# Altium schematic symbol library УГО.SchLib: 53 symbols
Pins are listed as number, name and electrical type; pins without a type are passive.

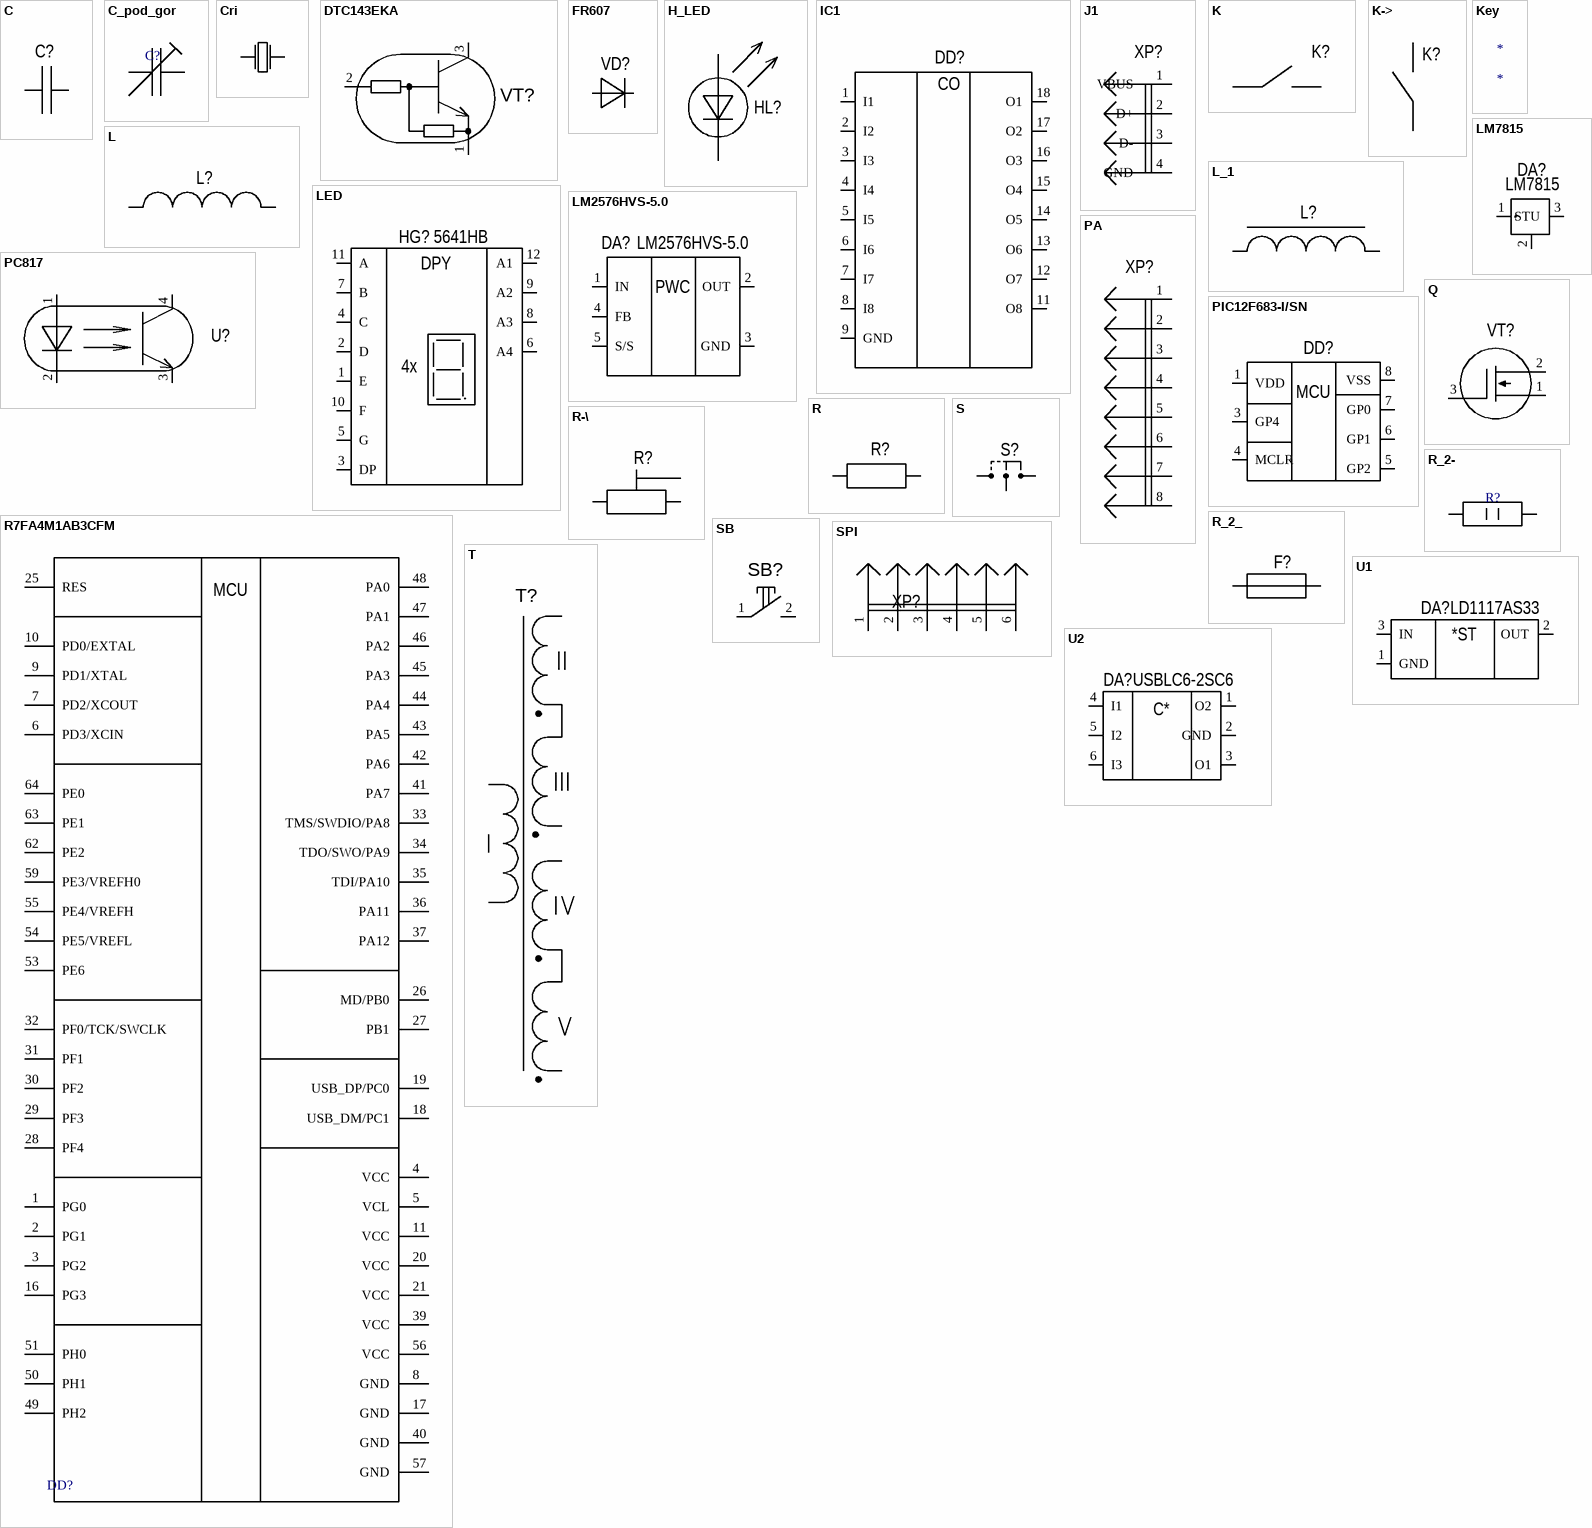
[diagram p0: symbols C to U2]

## C
designator C?
Конденсатор
footprint C_0603 (Chip Capacitor, 2-Leads, Body 1.60x0.80mm, IPC Medium Density)
footprint C_0805 (Chip Capacitor, 2-Leads, Body 2.00x1.25mm, IPC Medium Density)
footprint C_1206 (Chip Capacitor, 2-Leads, Body 3.20x1.60mm, IPC Medium Density)
footprint C_1210 (Chip Capacitor, 2-Leads, Body 3.20x2.50mm, IPC Medium Density)
footprint C_1812 (Chip Capacitor, 2-Leads, Body 4.50x3.20mm, IPC Medium Density)
footprint C_SMD_Al_D (Aluminum Electrolytic Capacitor, Body 6.60x6.60x6.10mm, IPC Medium Density)
footprint C_SMD_Al_F (Aluminum Electrolytic Capacitor, Body 8.30x8.30x10.50mm, IPC Medium Density)
footprint C_SMD_Al_G (Aluminum Electrolytic Capacitor, Body 10.30x10.30x10.50mm, IPC Medium Density)
pins: 1, 2

## C_pod_gor
designator C?
Конденсатор подстроечный
pins: 1, 2

## Cri
designator 1  (value not drawn)
pins: 1, 2

## DTC143EKA
designator VT?
Транзистор
footprint SOT23 (SOT23, 3-Leads, Body 2.90x2.45mm, Pitch 0.95mm, IPC Medium Density)
pins: 1, 2, 3

## FR607
designator VD?  (value not drawn)
Диод
footprint DIODE (BA315, 1N5817)
pins: 1, 2

## H_LED
designator HL?
Диод
footprint LED (AXIAL, 2-Leads, Diameter 2.35mm)
pins: 1 A, 2 C

## IC1
designator DD?, comment СО
pins: 1 I1, 2 I2, 3 I3, 4 I4, 5 I5, 6 I6, 7 I7, 8 I8, 9 GND, 11 O8, 12 O7, 13 O6, 14 O5, 15 O4, 16 O3, 17 O2, 18 O1

## J1
designator XP?  (value not drawn)
pins: 1 VBUS, 2 D+, 3 D-, 4 GND

## K
designator K?
Реле
footprint RALAY 4PIN
pins: 1, 2

## K->
designator K?  (value not drawn)
pins: 1, 2

## Key
designator *

## L
designator L?
Индуктивность
footprint INDUCTOR SMD
pins: 1, 2

## L_1
designator L?
Индуктивность с ферромагнетиком
footprint C_0603 (Chip Capacitor, 2-Leads, Body 1.60x0.80mm, IPC Medium Density)
pins: 1, 2

## LED
designator HG?, comment 5641HB
pins: 1 E, 2 D, 3 DP, 4 C, 5 G, 6 A4, 7 B, 8 A3, 9 A2, 10 F, 11 A, 12 A1
text: DPY; DPY / LED; 4x; .

## LM2576HVS-5.0
designator DA?  Model: LM2576HVS-5.0  (hidden comment: *)
Микросхема
footprint LM2576HVS-5.0
pins: 1 IN, 2 OUT, 3 GND, 4 FB, 5 S/S
text: PWC

## LM7815
designator DA?  Model: LM7815  (hidden comment: *)
Микросхема
footprint TO-220 (FM, 3-Leads, Body 10.3x4.85mm, Pitch 2.54mm)
pins: 1, 2, 3 STU

## PA
designator XP?, comment XP  (value not drawn)
pins: 1 PGD, 2 PGD, 3 PGD, 4 PGD, 5 PGC, 6 Общ., 7 +5 B, 8 RES

## PC817
designator U?
Оптрон
footprint PC817
pins: 1, 2, 3, 4

## PIC12F683-I/SN
designator DD?  (value not drawn)
Микросхема
footprint SOIC8 (PIC12F683)
pins: 1 VDD, 3 GP4, 4 MCLR, 5 GP2, 6 GP1, 7 GP0, 8 VSS
text: MCU

## Q
designator VT?, comment BSS84  (value not drawn)
pins: 1, 2, 3

## R
designator R?
Резистор
footprint R_0402 (Chip Resistor, 2-Leads, Body 1.00x0.50mm, IPC Medium Density)
footprint R_0603 (Chip Resistor, 2-Leads, Body 1.60x0.80mm, IPC Medium Density)
footprint R_0805 (Chip Resistor, 2-Leads, Body 2.00x1.25mm, IPC Medium Density)
footprint R_1206 (Chip Resistor, 2-Leads, Body 3.10x1.60mm, IPC Medium Density)
footprint R_2512 (Chip Resistor, 2-Leads, Body 6.35x3.10mm, IPC Medium Density)
footprint RES
pins: 1, 2

## R7FA4M1AB3CFM
designator DD?  (value not drawn)
Микросхема; Manufacturer_Name: Renesas Electronics; Manufacturer_Part_Number: R7FA4M1AB3CFM#HA0; Datasheet Link: https://www.renesas.com/us/en/products/microcontrollers-microprocessors/ra-cortex-m-mcus/ra4m1-32-bit-microcontrollers-48mhz-arm-cortex-m4-and-lcd-controller-and-cap-touch-hmi; Height: 1.7mm; Mouser Part Number: 968-70F3350GCAUEUAX; Mouser Price/Stock: https://www.mouser.co.uk/ProductDetail/Renesas-Electronics/R7FA4M1AB3CFMHA0?qs=1Kr7Jg1SGW%2FCWR9JvH7e0g%3D%3D
footprint QFP50P1200X1200X170-64N
pins: 1 PG0, 2 PG1, 3 PG2, 4 VCC, 5 VCL, 6 PD3/XCIN, 7 PD2/XCOUT, 8 GND, 9 PD1/XTAL, 10 PD0/EXTAL, 11 VCC, 16 PG3, 17 GND, 18 USB_DM/PC1, 19 USB_DP/PC0, 20 VCC, 21 VCC, 25 RES, 26 MD/PB0, 27 PB1, 28 PF4, 29 PF3, 30 PF2, 31 PF1, 32 PF0/TCK/SWCLK, 33 TMS/SWDIO/PA8, 34 TDO/SWO/PA9, 35 TDI/PA10, 36 PA11, 37 PA12, 39 VCC, 40 GND, 41 PA7, 42 PA6, 43 PA5, 44 PA4, 45 PA3, 46 PA2, 47 PA1, 48 PA0, 49 PH2, 50 PH1, 51 PH0, 53 PE6, 54 PE5/VREFL, 55 PE4/VREFH, 56 VCC, 57 GND, 59 PE3/VREFH0, 62 PE2, 63 PE1, 64 PE0
text: MCU

## R-\
designator R?  (value not drawn)
Резистор (подстрооечный)
pins: 1, 2, 2

## R_2-
designator R?  (value not drawn)
Резистор
pins: 1, 2

## R_2_
designator F?  (value not drawn)
Резистор
pins: 1, 2

## S
designator S?

## SB
designator SB?
Кнопка
footprint Pushbutton Switch
pins: 1, 2

## SPI
designator XP?  (value not drawn)
pins: 1 RES, 2 +5 B, 3 Общ., 4 PGC, 5 PGD, 6 PGD

## T
designator T?  (value not drawn)
Индуктивность
footprint TRANSFORMER 1-2
pins: 1, 2, 3, 4, 5, 6

## U1
designator DA?, comment LD1117AS33
pins: 1 GND, 2 OUT, 3 IN
text: *ST

## U2
designator DA?, comment USBLC6-2SC6
pins: 1 O2, 2 GND, 3 O1, 4 I1, 5 I2, 6 I3
text: Type @ to refer to a designator or a net; C*

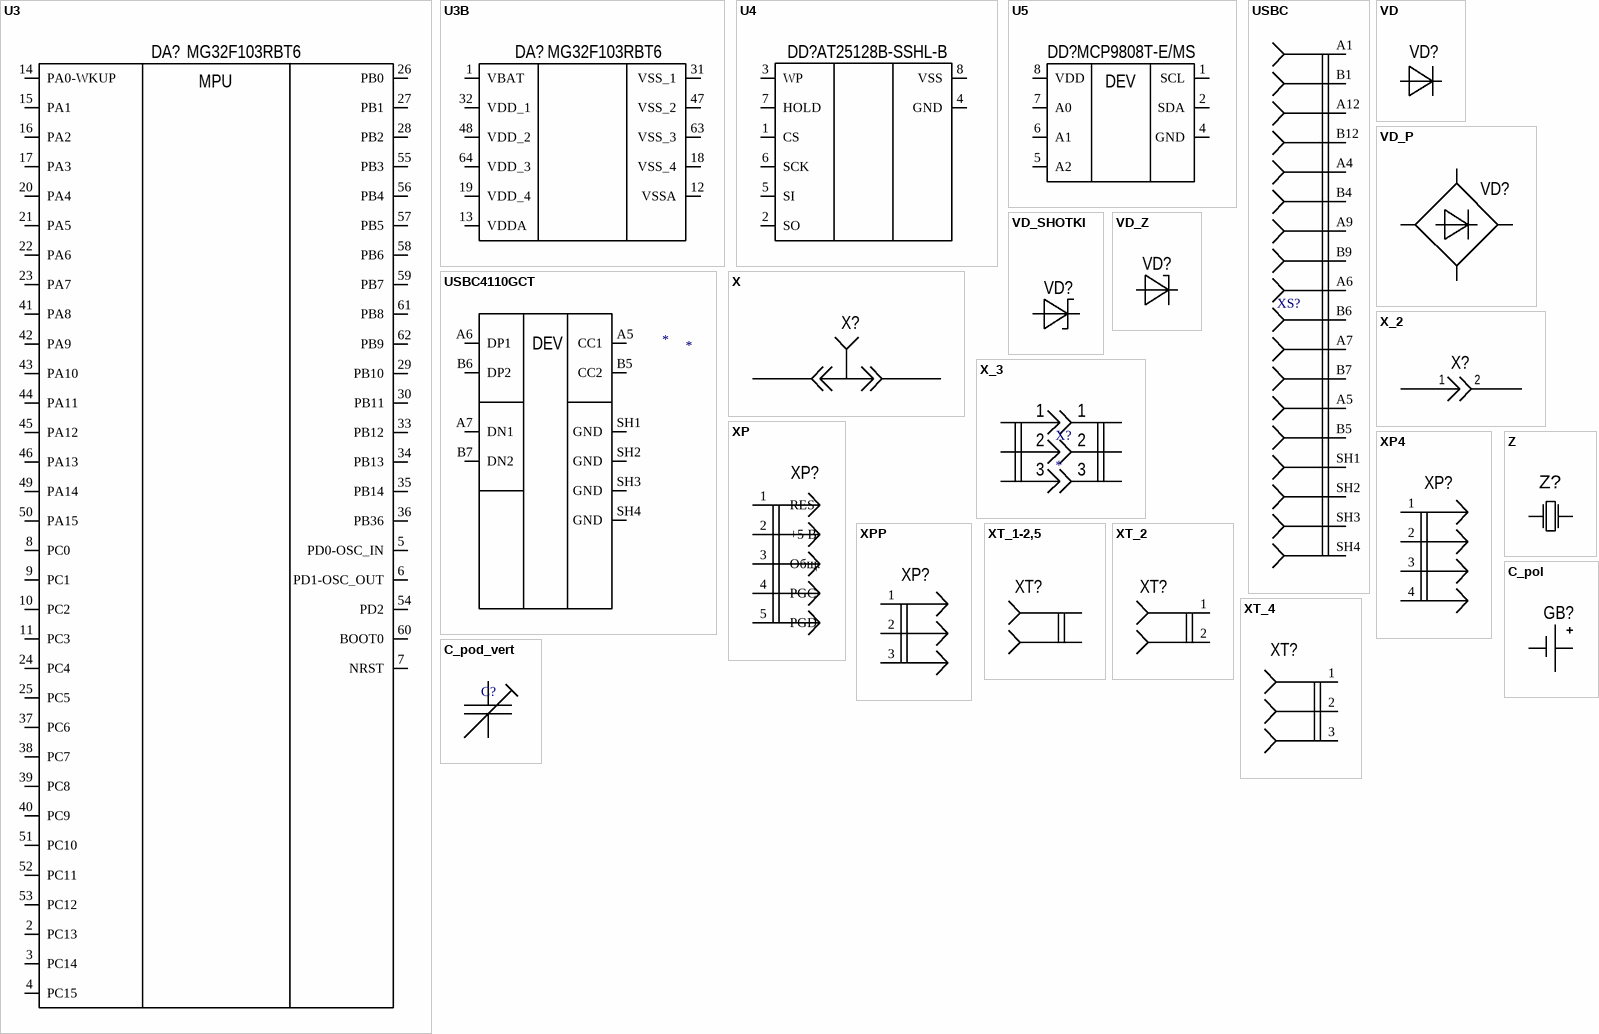
[diagram p1: symbols U3 to С_pol]

## U3
designator DA?, comment MG32F103RBT6
pins: 2 PC13, 3 PC14, 4 PC15, 5 PD0-OSC_IN, 6 PD1-OSC_OUT, 7 NRST, 8 PC0, 9 PC1, 10 PC2, 11 PC3, 14 PA0-WKUP, 15 PA1, 16 PA2, 17 PA3, 20 PA4, 21 PA5, 22 PA6, 23 PA7, 24 PC4, 25 PC5, 26 PB0, 27 PB1, 28 PB2, 29 PB10, 30 PB11, 33 PB12, 34 PB13, 35 PB14, 36 PB36, 37 PC6, 38 PC7, 39 PC8, 40 PC9, 41 PA8, 42 PA9, 43 PA10, 44 PA11, 45 PA12, 46 PA13, 49 PA14, 50 PA15, 51 PC10, 52 PC11, 53 PC12, 54 PD2, 55 PB3, 56 PB4, 57 PB5, 58 PB6, 59 PB7, 60 BOOT0, 61 PB8, 62 PB9
text: MPU /

## U3B
designator DA?, comment MG32F103RBT6
pins: 1 VBAT, 12 VSSA, 13 VDDA, 18 VSS_4, 19 VDD_4, 31 VSS_1, 32 VDD_1, 47 VSS_2, 48 VDD_2, 63 VSS_3, 64 VDD_3

## U4
designator DD?, comment AT25128B-SSHL-B
pins: 1 CS, 2 SO, 3 WP, 4 GND, 5 SI, 6 SCK, 7 HOLD, 8 VSS
text: *T

## U5
designator DD?, comment MCP9808T-E/MS
pins: 1 SCL, 2 SDA, 4 GND, 5 A2, 6 A1, 7 A0, 8 VDD
text: DEV

## USBC
designator XS?
footprint USB4110GFA
pins: A1, A4, A5, A6, A7, A9, A12, B1, B4, B5, B6, B7, B9, B12, SH1, SH2, SH3, SH4

## USBC4110GCT
designator *
footprint USB4110GFA
pins: A5 CC1, A6 DP1, A7 DN1, B5 CC2, B6 DP2, B7 DN2, SH1 GND, SH2 GND, SH3 GND, SH4 GND
text: DEV

## VD
designator VD?
Диод
footprint DIODE (BA315, 1N5817)
pins: 1, 2

## VD_P
designator VD?
Диодный мост
footprint W10M
pins: 1, 2, 3, 4

## VD_SHOTKI
designator VD?
Диод Шоттки
footprint DIODE (BA315, 1N5817)
pins: 1, 2

## VD_Z
designator VD?
Диод
footprint DIODE SOT; pin to pad 2>3
pins: 1, 2

## X
designator X?  (value not drawn)
pins: 1, 1

## X_2
designator X?
Соединение контактное
pins: 1, 3 1
text: 2

## X_3
designator X?
Соединение контактное
pins: 1, 2, 3, 4, 5, 6

## XP
designator XP?
Соединение (вилка)
footprint 5PIN CON
footprint 5PIN CON_2
pins: 1 RES, 2 +5 B, 3 Общ., 4 PGC, 5 PGD

## XP4
designator XP?  (value not drawn)
pins: 1 RES, 2 +5 B, 3 Общ., 4 PGC

## XPP
designator XP?  (value not drawn)
pins: 1 RES, 2 +5 B, 3 Общ.

## XT_1-2,5
designator XT?  (value not drawn)
Соединение (розетка)
footprint 2PIN CON (2.00mm SMT Male Vertical Shrouded Header, 2p)
pins: 1, 2

## XT_2
designator XT?  (value not drawn)
Соединение (розетка)
footprint 3PIN CON
footprint 3PIN CON_2 (THR - 5,08mm - PCB Horizontal Open - 03p)
pins: 1, 2

## XT_4
designator XT?  (value not drawn)
Соединение (розетка)
footprint 3PIN CON
footprint 3PIN CON_2 (THR - 5,08mm - PCB Horizontal Open - 03p)
pins: 1, 2, 3

## Z
designator Z?
Резонатор кварцевый
pins: 1 X1, 2 X2

## С_pod_vert
designator С?
Конденсатор подстроечный
pins: 1, 2

## С_pol
designator GB?
Конденсатор полярный
pins: 1, 2